# Altium integrated library WireLabel.IntLib: 2 symbols
Pins are listed as number, name and electrical type; pins without a type are passive.

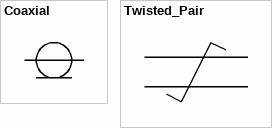
[diagram p0: symbols Coaxial to Twisted_Pair]

## Coaxial
designator *  (value not drawn)  (graphical)
Value: =Value
pins: 1, 2
1 alternate drawing of the same symbol

## Twisted_Pair
designator *  (value not drawn)  (graphical)
Value: =Value
pins: 1, 2, 3, 4